# EAGLE library part IS62WV20488BLL-* (library memory-issi-asynsram)
2048k x 8 high- speed low power CMOS static RAM 25ns access time 3.6V power supply
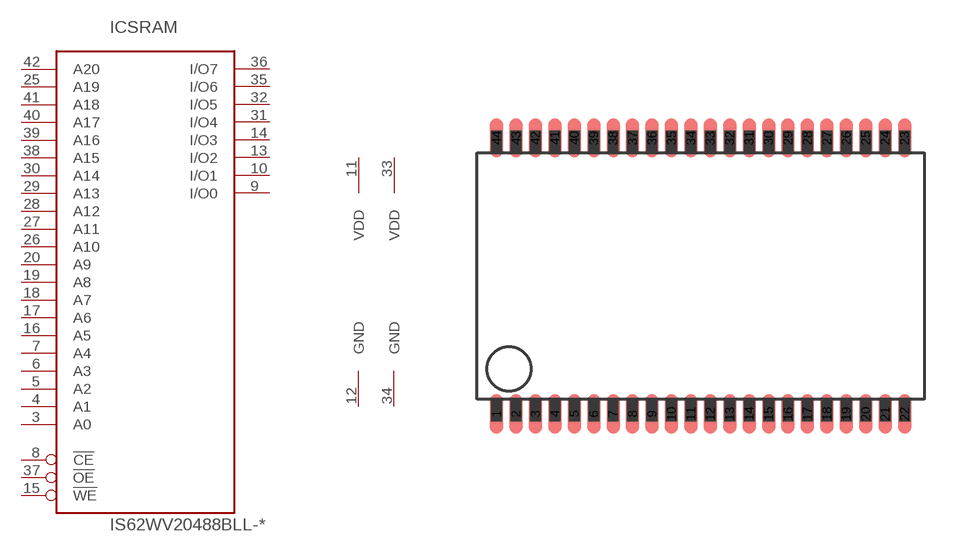
[diagram p68: symbol with the pads of TSOP-II-44; footprint TSOP-II-44]

Designator prefix IC; gates SRAM=2048KX8_TYP1 PWR=PWR_VDD2_GND2

## IS62WV20488BLL-25T  [TSOP-II-44]
3  SRAM:A0  in
4  SRAM:A1  in
5  SRAM:A2  in
6  SRAM:A3  in
7  SRAM:A4  in
8  SRAM:!CE  in
9  SRAM:I/O0  hiz
10  SRAM:I/O1  hiz
11  PWR:VDD  pwr
12  PWR:GND  pwr
13  SRAM:I/O2  hiz
14  SRAM:I/O3  hiz
15  SRAM:!WE  in
16  SRAM:A5  in
17  SRAM:A6  in
18  SRAM:A7  in
19  SRAM:A8  in
20  SRAM:A9  in
25  SRAM:A19  in
26  SRAM:A10  in
27  SRAM:A11  in
28  SRAM:A12  in
29  SRAM:A13  in
30  SRAM:A14  in
31  SRAM:I/O4  hiz
32  SRAM:I/O5  hiz
33  PWR:VDD  pwr
34  PWR:GND  pwr
35  SRAM:I/O6  hiz
36  SRAM:I/O7  hiz
37  SRAM:!OE  in
38  SRAM:A15  in
39  SRAM:A16  in
40  SRAM:A17  in
41  SRAM:A18  in
42  SRAM:A20  in

## Footprint TSOP-II-44 (pad centres in mm)
TSOP-II-44 44-pin thin small-outline package, Typ II
smd 0.55 x 1.6: 1 -8.4,-5.68; 2 -7.6,-5.68; 3 -6.8,-5.68; 4 -6,-5.68; 5 -5.2,-5.68; 6 -4.4,-5.68; 7 -3.6,-5.68; 8 -2.8,-5.68; 9 -2,-5.68; 10 -1.2,-5.68; 11 -0.4,-5.68; 12 0.4,-5.68; 13 1.2,-5.68; 14 2,-5.68; 15 2.8,-5.68; 16 3.6,-5.68; 17 4.4,-5.68; 18 5.2,-5.68; 19 6,-5.68; 20 6.8,-5.68; 21 7.6,-5.68; 22 8.4,-5.68; 23 8.4,5.68; 24 7.6,5.68; 25 6.8,5.68; 26 6,5.68; 27 5.2,5.68; 28 4.4,5.68; 29 3.6,5.68; 30 2.8,5.68; 31 2,5.68; 32 1.2,5.68; 33 0.4,5.68; 34 -0.4,5.68; 35 -1.2,5.68; 36 -2,5.68; 37 -2.8,5.68; 38 -3.6,5.68; 39 -4.4,5.68; 40 -5.2,5.68; 41 -6,5.68; 42 -6.8,5.68; 43 -7.6,5.68; 44 -8.4,5.68